# Altium schematic symbol library SN74AC245N.SchLib: 1 symbol
Pins are listed as number, name and electrical type; pins without a type are passive.

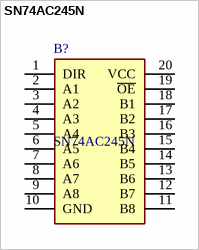
[diagram p0: symbol SN74AC245N]

## SN74AC245N
designator B?
Octal Bus Transceivers With 3-State Outputs; Manufacturer_Name: Texas Instruments; Geometry.Height: 5.08mm; Mouser Part Number: 595-SN74AC245N; Mouser Price/Stock: https://www.mouser.co.uk/ProductDetail/Texas-Instruments/SN74AC245N?qs=L5CvrNUdZiqC%2FBoZzkIB7Q%3D%3D; Manufacturer_Part_Number: SN74AC245N; Datasheet Link: http://www.ti.com/lit/gpn/sn74ac245
footprint DIP794W53P254L2540H508Q20N
pins: 1 DIR, 2 A1, 3 A2, 4 A3, 5 A4, 6 A5, 7 A6, 8 A7, 9 A8, 10 GND, 11 B8, 12 B7, 13 B6, 14 B5, 15 B4, 16 B3, 17 B2, 18 B1, 19 ~{OE}, 20 VCC